# Altium integrated library TPS2813.IntLib: 1 symbol
Pins are listed as number, name and electrical type; pins without a type are passive.

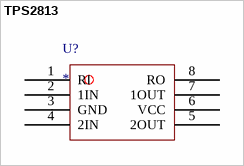
[diagram p0: symbol TPS2813]

## TPS2813
designator U?
footprint TPS2813(SOIC127P600X175-8N) (SOIC, 8-Leads, Body 4.90x3.90mm, Pitch 1.27mm, IPC Medium Density)
pins: 1 RI, 2 1IN, 3 GND, 4 2IN, 5 2OUT, 6 VCC, 7 1OUT, 8 RO